# Altium schematic symbol library B-NT_CHIPS.SchLib: 157 symbols (part 2 of 4)
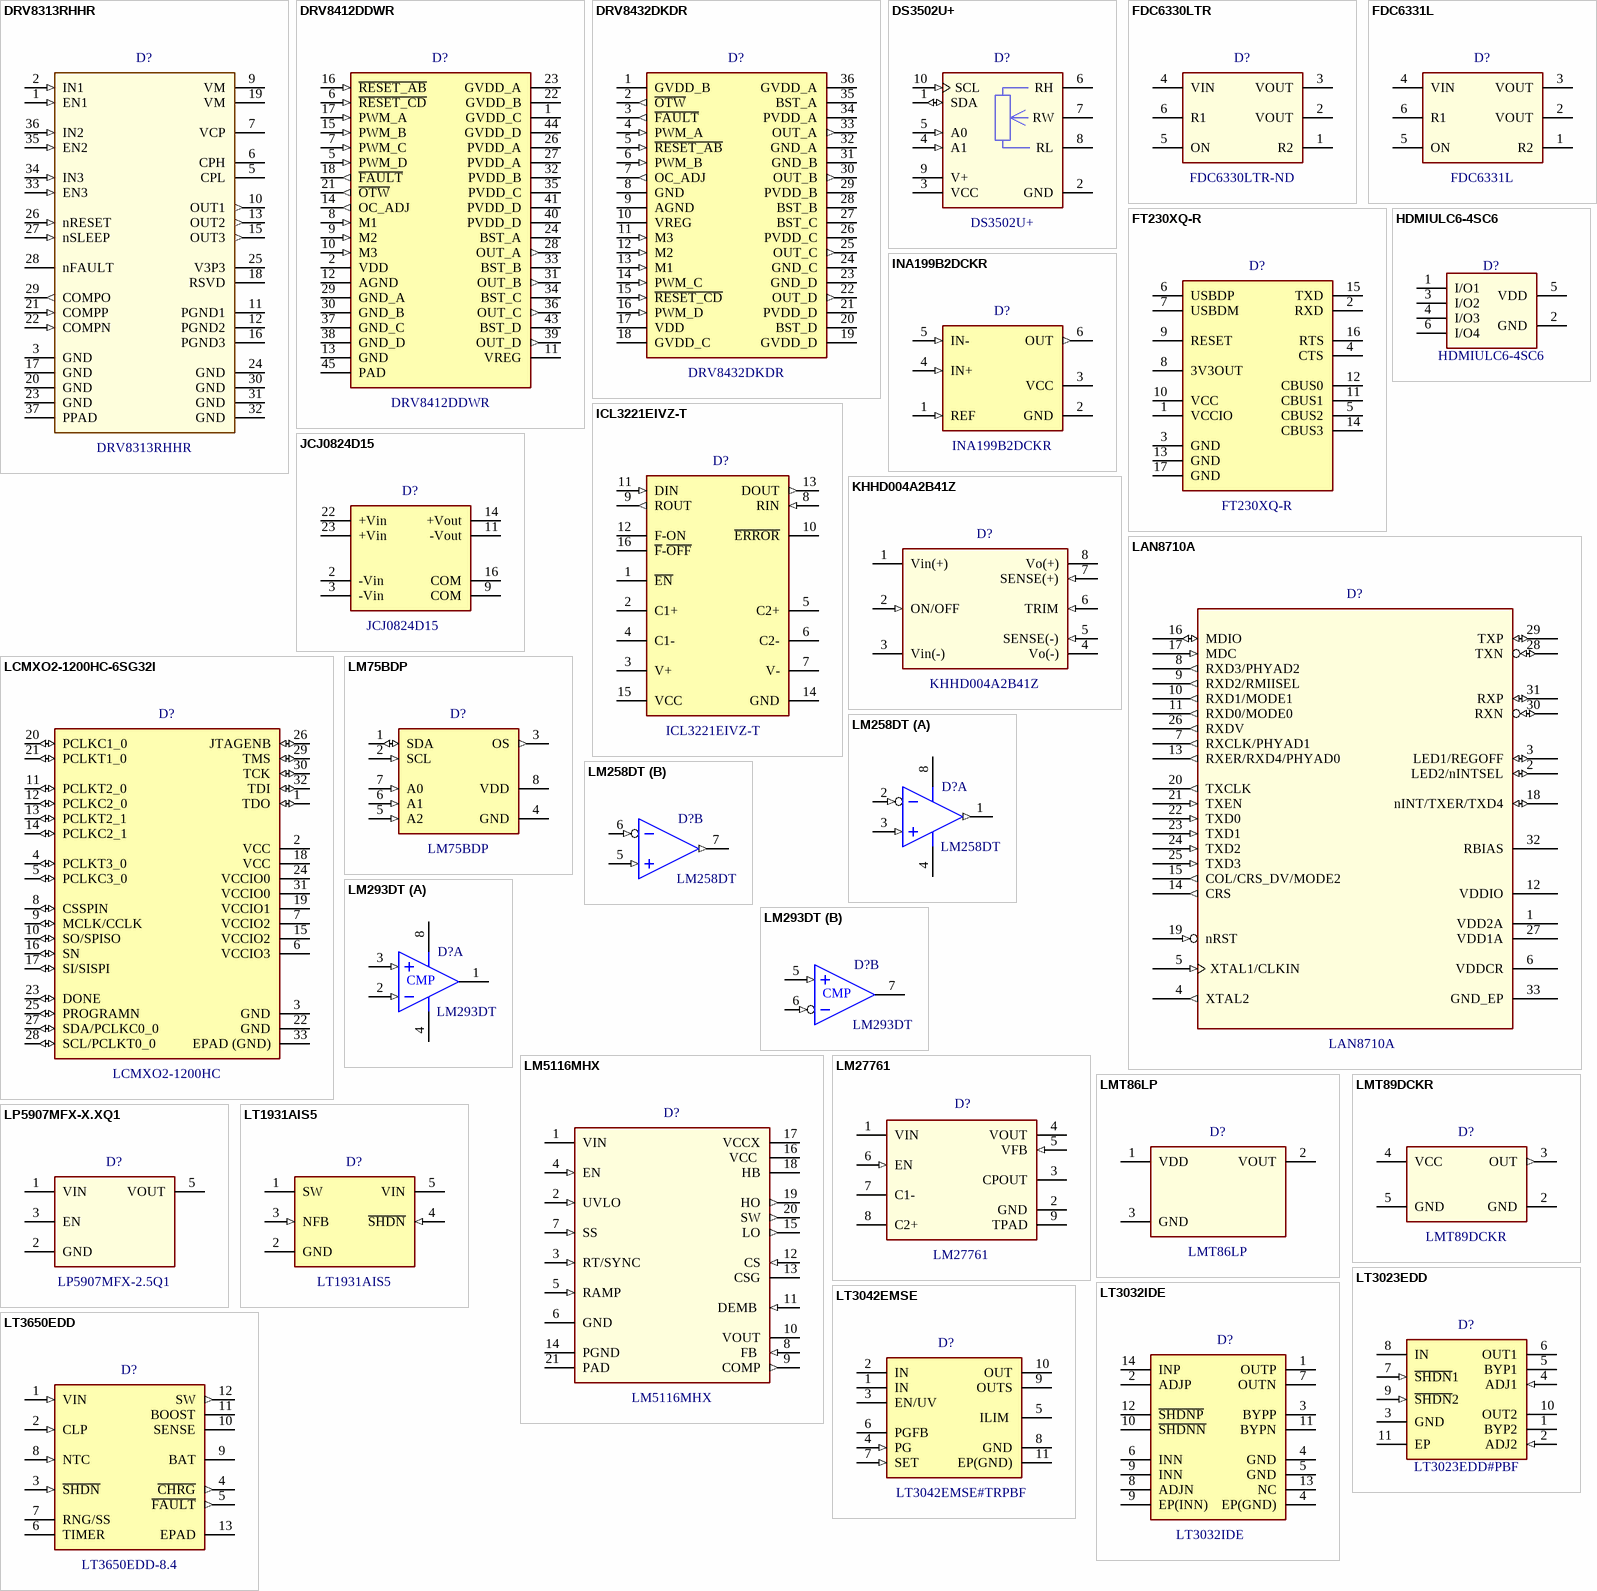
[diagram p10: symbols DRV8313RHHR to LT3650EDD]

## FT230XQ-R
designator D?  value FT230XQ-R
USB to UART 16-WQFN (4x4); ValueManufacturer: FTDI; PowerVoltage: 3.3V~5.0V; ValueDescription: FT230XQ-R USB-UART преобразователь 3.3V~5.0V  16-WQFN(4x4); ValueType: USB to UART Converter; Price: 2.3; ComponentLink1Description: FTDI Datasheet; ComponentLink1URL: http://www.ftdichip.com/Support/Documents/DataSheets/ICs/DS_FT230X.pdf; Package: 16-WQFN(4x4); ValueManufacturerPartNumber: FT230XQ-R; Operating Temperature: -40°C~85°C; CheckDate: SC 21.10.17
footprint QFN-16-4X4-0.65-T (QFN, 16-Leads with exposed die pad, Body 4.1x4.1mm (max), Pitch 0.650mm, IPC Medium Density)
pins: 1 VCCIO, 2 RXD, 3 GND, 4 CTS, 5 CBUS2, 6 USBDP, 7 USBDM, 8 3V3OUT, 9 RESET, 10 VCC, 11 CBUS1, 12 CBUS0, 13 GND, 14 CBUS3, 15 TXD, 16 RTS, 17 GND "THERMOPAD"

## HDMIULC6-4SC6
designator D?  value HDMIULC6-4SC6
TVS DIODE 5V 17V SOT23-6; ValueManufacturer: STMicroelectronics; PowerVoltage: 6В; ValueDescription: HDMIULC6-4SC6 Сборка TVS-диодов 6В  SOT-23-6; ValueType: TVS Diodes; Price: 0.64; ComponentLink1Description: STMicroelectronics Datasheet; ComponentLink1URL: http://www.st.com/content/ccc/resource/technical/document/datasheet/a3/6a/b3/70/10/f8/40/1a/CD00099705.pdf/files/CD00099705.pdf/jcr:content/translations/en.CD00099705.pdf; Package: SOT-23-6; ValueManufacturerPartNumber: HDMIULC6-4SC6; Operating Temperature: -65°C ~ 150°C (TJ); CheckDate: SC *
footprint SOT23-6-1.6X2.9-0.95 (SOT, 6-Leads, Body 2,9x1,6mm, Pitch 0,95mm)
pins: 1 I/O1, 2 GND, 3 I/O2, 4 I/O3, 5 VDD, 6 I/O4

## ICL3221EIVZ-T
designator D?  value ICL3221EIVZ-T
RS232 Transceiver Full 1CH 250kbps 16-TSSOP (4.40mm Width); ValueManufacturer: Intersil; PowerVoltage: 3V~5.5V; ValueDescription: ICL3221EIVZ-T  RS232 Трансивер 16-TSSOP (4.40mm)  3V~5.5V  250kbps; Price: 1.52; ComponentLink1Description: Intersil Datasheet; ComponentLink1URL: http://www.intersil.com/content/dam/Intersil/documents/icl3/icl3221e-22e-23e-32e-41e-43e.pdf; Package: 16-TSSOP (4.40mm); TechSpec: 250kbps; ValueManufacturerPartNumber: ICL3221EIVZ-T; ValueType: Transceiver; Operating Temperature: -40°C~85°C; CheckDate: SC 02.03.17
footprint TSSOP-16-4.4X5-0.65 (QSOP, 16 Leads, Body 5.1x4.5mm (max), Pitch 0.65mm)
pins: 1 ~{EN}, 2 C1+, 3 V+, 4 C1-, 5 C2+, 6 C2-, 7 V-, 8 RIN (in) "out A", 9 ROUT (out) "out A", 10 ~{ERROR}, 11 DIN (in) "Output", 12 F-ON, 13 DOUT (out) "Output", 14 GND, 15 VCC, 16 ~{F}-~{OFF}

## INA199B2DCKR
designator D?  value INA199B2DCKR
Current Sense Amplifier 2.7V~26V 6-TSSOP; ValueManufacturer: Texas Instruments; ValueDescription: INA199B2DCKR Измеритель тока шунта 2.7V~26V  6-TSSOP (SOT-363); Price: 0.92; ComponentLink1Description: Texas Instruments  Datasheet; ComponentLink1URL: http://www.ti.com/lit/ds/symlink/ina199.pdf; Package: 6-TSSOP (SOT-363); PowerVoltage: 2.7V~26V; ValueManufacturerPartNumber: INA199B2DCKR; ValueType: Current Sense; Operating Temperature: -40°C~125°C; CheckDate: SC 25.12.16
footprint SOT363-6-1.25X2.1-0.65 (TSOP, 6-Leads, Body 2,00x1,25mm, Pitch 0,65mm, IPC Medium Density)
pins: 1 REF (in) "out A", 2 GND "Ground", 3 VCC "Supply", 4 IN+ (in) "Input +", 5 IN- (in) "Input -", 6 OUT (out) "Output"

## JCJ0824D15
designator D?  value JCJ0824D15
Isolated Module DC DC Converter 2 Output 15V -15V 265mA, 265mA 18V - 36V Input; ValueManufacturer: XP Power; PowerVoltage: 8W  18~36VAC; ValueDescription: JCJ0824D15 Преобразователь напряжения XP Power  8W  18~36VAC; ValueType: DC-DC; Price: 25; ComponentLink1Description: XP Power Datasheet; ComponentLink1URL: http://www.xppower.com/Portals/0/pdfs/SF_JCJ08-10.pdf; Package: 11-DIP (31.8x20.3x10.2mm); ValueManufacturerPartNumber: JCJ0824D15; Operating Temperature: -40°C~100°C; CheckDate: SC 26.03.17
footprint JCJ0824D15 ((31.8mm x 20.3mm x 10.2mm))
pins: 2 -Vin, 3 -Vin, 9 COM, 11 -Vout, 14 +Vout, 16 COM, 22 +Vin, 23 +Vin

## KHHD004A2B41Z
designator D?  value KHHD004A2B41Z
DC/DC CONVERTER 50W 12V 4.2A; ValueManufacturer: General Electric; Tolerance: +10% ~ -20%; ValueDescription: KHHD004A2B41Z DC/DC конвертер 12V  DIP-8 Module; CheckDate: SC *; ComponentLink2Description: General Electric Datasheet; ComponentLink2URL: http://apps.geindustrial.com/publibrary/checkout/KHHD004A2B?TNR=Data%20Sheets|KHHD004A2B|generic; Package: DIP-8 Module; PowerVoltage: 12V; ValueManufacturerPartNumber: KHHD004A2B41Z; ValueType: DC/DC CONVERTER; Price: 28.15$; Operating Temperature: -40 ~ +85
footprint KHHD004A2B41
pins: 1 Vin(+) (power), 2 ON/OFF (in), 3 Vin(-) (power), 4 Vo(-), 5 SENSE(-) (in), 6 TRIM (in), 7 SENSE(+) (in), 8 Vo(+)

## LAN8710A
designator D?  value LAN8710A
Ethernet ICs 10/100 Ethernet XCVR w/HPAutoMDIX FlexPwr; ValueManufacturer: Texas Instruments; PowerVoltage: 1.6V~3.6V; ValueDescription: LAN8710A ethetnet приемопередатчик 1.6V~3.6V  32-VQFN(5x5); ValueType: transceiver; Price: 1.29; ComponentLink1Description: Microchip Technology Datasheet; ComponentLink1URL: http://ww1.microchip.com/downloads/en/DeviceDoc/00002164B.pdf; Package: 32-VQFN(5x5); ValueManufacturerPartNumber: LAN8710A; Operating Temperature: -0°C~85°C; CheckDate: SC 21.10.17
footprint QFN-32-5X5-0.5-T (QFN, 32-Leads with exposed die pad, Body 5.1x5.1mm (max), Pitch 0.50mm, IPC Medium Density)
pins: 1 VDD2A (power), 2 LED2/nINTSEL (io), 3 LED1/REGOFF (io), 4 XTAL2 (out), 5 XTAL1/CLKIN (in), 6 VDDCR (power), 7 RXCLK/PHYAD1 (out), 8 RXD3/PHYAD2 (out), 9 RXD2/RMIISEL (out), 10 RXD1/MODE1 (out), 11 RXD0/MODE0 (out), 12 VDDIO (power), 13 RXER/RXD4/PHYAD0 (out), 14 CRS (out), 15 COL/CRS_DV/MODE2 (out), 16 MDIO (io), 17 MDC (in), 18 nINT/TXER/TXD4 (io), 19 nRST (in), 20 TXCLK (out), 21 TXEN (in), 22 TXD0 (in), 23 TXD1 (in), 24 TXD2 (in), 25 TXD3 (in), 26 RXDV (out), 27 VDD1A (power), 28 TXN (io), 29 TXP (io), 30 RXN (io), 31 RXP (io), 32 RBIAS, 33 GND_EP (power)

## LCMXO2-1200HC-6SG32I
designator D?  value LCMXO2-1200HC
IC FPGA 21 I/O 32QFN 32-QFN (5x5); ValueManufacturer: Lattice Semiconductor Corporation; ValueManufacturerPartNumber: LCMXO2-1200HC-6SG32I; PowerVoltage: 2.375 V ~ 3.465 V; ValueType: CPLD; ValueDescription: LCMXO2-1200HC ПЛИС 2.375 V ~ 3.465 V  32-UFQFN Exposed Pad; Price: 5.70; Package: 32-UFQFN Exposed Pad; Operating Temperature: -40°C ~ 100°C; CheckDate: SC *; ComponentLink1Description: Lattice Semiconductor Datasheet; ComponentLink1URL: http://www.latticesemi.com/~/media/LatticeSemi/Documents/DataSheets/MachXO23/MachXO2FamilyDataSheet.pdf
footprint QFN-32-5X5-0.5-T (QFN, 32-Leads with exposed die pad, Body 5.1x5.1mm (max), Pitch 0.50mm, IPC Medium Density)
pins: 1 TDO (io), 2 VCC, 3 GND, 4 PCLKT3_0 (io), 5 PCLKC3_0 (io), 6 VCCIO3, 7 VCCIO2, 8 CSSPIN (io), 9 MCLK/CCLK (io), 10 SO/SPISO (io), 11 PCLKT2_0 (io), 12 PCLKC2_0 (io), 13 PCLKT2_1 (io), 14 PCLKC2_1 (io), 15 VCCIO2, 16 SN (io), 17 SI/SISPI (io), 18 VCC, 19 VCCIO1, 20 PCLKC1_0 (io), 21 PCLKT1_0 (io), 22 GND, 23 DONE (io), 24 VCCIO0, 25 PROGRAMN (io), 26 JTAGENB (io), 27 SDA/PCLKC0_0 (io), 28 SCL/PCLKT0_0 (io), 29 TMS (io), 30 TCK (io), 31 VCCIO0, 32 TDI (io), 33 EPAD (GND)

## LM75BDP
designator D?  value LM75BDP
I2C Digital Temperature Sensor 2.8V~5.5V -55°C~125°C 11b 8-TSSOP; ValueManufacturer: NXP Semiconductors; ValueDescription: LM75BDP Цифровой термодатчик  2.8V~5.5V  8-TSSOP (3.00mm); ValueType: Current Sense; Price: 0.74; ComponentLink1Description: NXP Semiconductors Datasheet; ComponentLink1URL: http://www.nxp.com/documents/data_sheet/LM75B.pdf; Package: 8-TSSOP (3.00mm); PowerVoltage: 2.8V~5.5V; ValueManufacturerPartNumber: LM75BDP; Operating Temperature: -55°C~125°C; CheckDate: SC 25.12.16
footprint SSOP-8-3X3-0.65 (MSOP, 8-Leads, Body 3,00x3,00mm, Pitch 0,65mm, IPC Medium Density)
pins: 1 SDA (io) "Serial Data", 2 SCL (in) "Serial CLock", 3 OS (out) "Overtemperature Shutdown output", 4 GND "Ground", 5 A2 (in) "User-defined address", 6 A1 (in) "User-defined address", 7 A0 (in) "User-defined address", 8 VDD "Power"

## LM258DT
designator D?  value LM258DT
OP Amplifier GP 1.1MHZ  8SOIC 3V~30V; ValueManufacturer: STMicroelectronics; ValueDescription: LM258DT Операционный усилитель 3V~30V  8-SOIC (3.90mm); ValueType: Operational amplifiers; Price: 0.36; ComponentLink1Description: STM Datasheet; ComponentLink1URL: http://www.st.com/content/ccc/resource/technical/document/datasheet/61/46/87/01/98/ed/44/c5/CD00000464.pdf/files/CD00000464.pdf/jcr:content/translations/en.CD00000464.pdf; Package: 8-SOIC (3.90mm); PowerVoltage: 3V~30V; ValueManufacturerPartNumber: LM258DT; Operating Temperature: -40°C~105°C; CheckDate: SC 22.03.17
footprint SOP-8-3.9X5-1.27 (SOIC, 8-Leads, Body 5x4mm, Pitch 1.27mm, IPC Medium Density)
part A pins: 1 VOUTA (out), 2 VINA- (in), 3 VINA+ (in), 4 VSS, 8 VDD
part B pins: 5 VINB+ (in), 6 VINB- (in), 7 VOUTB (out)

## LM293DT
designator D?  value LM293DT
8-SO IC COMPARATOR LP DUAL 8-SOIC 2V~36V; ValueManufacturer: STMicroelectronics; ValueDescription: LM293DT Компаратор 2V~36V  8-SOIC (3.90mm); Price: 0.37; ComponentLink1Description: STMicroelectronics Datasheet; ComponentLink1URL: http://www.st.com/content/ccc/resource/technical/document/datasheet/group1/b4/cc/cf/13/18/28/44/f5/CD00000465/files/CD00000465.pdf/jcr:content/translations/en.CD00000465.pdf; Package: 8-SOIC (3.90mm); PowerVoltage: 2V~36V; ValueManufacturerPartNumber: LM293DT; ValueType: Comparator; Operating Temperature: -40°C~105°C; CheckDate: SC 14.01.17
footprint SOP-8-3.9X5-1.27 (SOIC, 8-Leads, Body 5x4mm, Pitch 1.27mm, IPC Medium Density)
part A pins: 1 VOUTA (oc), 2 VINA- (in), 3 VINA+ (in), 4 VSS, 8 VDD
part B pins: 5 VINB+ (in), 6 VINB- (in), 7 VOUTB (oc)
part A text: CMP
part B text: CMP

## LM5116MHX
designator D?  value LM5116MHX
Step Down Buck Controller 6V~100V Input voltage; ValueManufacturer: Texas Instruments; ValueDescription: LM5116MHX  Преобразователь напряжения 6V~100V  20-TSSOP EP (4.40mm); ValueType: Power Management; Price: 5.95; ComponentLink1Description: Texas Instruments Datasheet; ComponentLink1URL: http://www.ti.com/lit/ds/symlink/lm5116.pdf; Package: 20-TSSOP EP (4.40mm); PowerVoltage: 6V~100V; ValueManufacturerPartNumber: LM5116MHX; Operating Temperature: -40°C ~ 125°C; CheckDate: SC 20.12.16
footprint TSSOP-20-4.4X6.5-0.65-T (TSOP, 20-Leads, Body 6.5x4.4mm, Pitch 0.65mm, IPC Medium Density)
pins: 1 VIN, 2 UVLO  (in), 3 RT/SYNC  (in), 4 EN (in), 5 RAMP  (in), 6 GND, 7 SS (in), 8 FB  (in), 9 COMP (out), 10 VOUT, 11 DEMB  (in), 12 CS (in), 13 CSG, 14 PGND, 15 LO (out), 16 VCC , 17 VCCX, 18 HB, 19 HO (out), 20 SW (out), 21 PAD

## LM27761
designator D?  value LM27761
IC REG SWITCHD CAP NEG ADJ 8WSON; ValueManufacturer: Texas Instruments; PowerVoltage: 2.7-5.5V; Tolerance: +4% ~ -4%; ValueDescription: LM27761 Стабилизатор напряжения инвертирующий 2.7-5.5V  WSON-8; ValueType: IC Switching Regulator; CheckDate: SC *; ComponentLink2Description: http://www.ti.com/; ComponentLink2URL: http://www.ti.com/lit/ds/symlink/lm27761.pdf; Package: WSON-8; ValueManufacturerPartNumber: LM27761; Price: 1.79$; Operating Temperature: -40 ~ +85
footprint SON-8-2X2-0.5-T
pins: 1 VIN (power), 2 GND (power), 3 CPOUT, 4 VOUT, 5 VFB (in), 6 EN (in), 7 C1-, 8 C2+, 9 TPAD

## LMT86LP
designator D?  value LMT86LP
SENSOR TEMP ANLG VOLT TO-92-3 10.9mV/°C; ValueManufacturer: Diodes Incorporated; PowerVoltage: 2.2V~5.5V; Tolerance: ±2.7°C; ValueDescription: LMT86LP Темпрературный датчик   2.2V~5.5V  ±2.7°C  TO-92-3; Price: 0.85; ComponentLink1Description: TI Datasheet; ComponentLink1URL: http://www.ti.com/lit/ds/symlink/lmt86.pdf; Package: TO-92-3; ValueManufacturerPartNumber: LMT86LP; ValueType: SENSOR TEMP; Operating Temperature: -50°C~150°C; CheckDate: SC 04.04.17
footprint TO-92
pins: 1 VDD, 2 VOUT, 3 GND

## LMT89DCKR
designator D?  value LMT89DCKR
SENSOR TEMP 11.77mV/°C ANLG VOLT SC-70-5; ValueManufacturer: Texas Instruments; PowerVoltage: 2.4V~5.5V; Tolerance: ±1.5°C (±2.5°C); ValueDescription: LMT89DCKR NZT-терморезистор 2.4V~5.5V  SC-70-5; ValueType: Temperature Sensor; Price: 0.8; ComponentLink1Description: TI Datasheet; ComponentLink1URL: http://www.ti.com/lit/ds/symlink/lmt89.pdf; Package: SC-70-5; ValueManufacturerPartNumber: LMT89DCKR; Operating Temperature: -55°C~130°C; CheckDate: SC 26.03.17
footprint SOT353-5-1.25X2.1-0.65 (SC-70-5, 0.65 PITCH)
pins: 2 GND "Ground", 3 OUT (out) "Output", 4 VCC "Positive power supply pin", 5 GND "Ground"

## LP5907MFX-X.XQ1
designator D?  value LP5907MFX-2.5Q1
LDO 25MA VINmax=5.5V SOT-23-5; ValueManufacturer: Texas Instrument; ValueManufacturerPartNumber: LP5907MFX-X.XQ1; PowerVoltage: 250mA; ValueDescription: LP5907MFX-2.5Q1 Линейный преобразователь 250mA  SOT-23-5 (SOT-753)  VINmax=5.5V; ValueType: Linear Voltage Regulator; Price: 0.55; ComponentLink1Description: Texas Instrument Datasheet; ComponentLink1URL: http://www.ti.com/lit/ds/symlink/lp5907.pdf; Package: SOT-23-5 (SOT-753); TechSpec: VINmax=5.5V; Operating Temperature: -40°C~85°C; CheckDate: SC 19.02.18
footprint SOT23-5-1.6X2.9-0.95 (SOT, 6-Leads, Body 2,9x1,6mm, Pitch 0,95mm)
pins: 1 VIN, 2 GND, 3 EN, 5 VOUT

## LT1931AIS5
designator D?  value LT1931AIS5
IC REG CUK INV ADJ 1A TSOT23-5; ValueManufacturer: Analog Devices Inc.; ValueManufacturerPartNumber: LT1931AIS5#TRMPBF; ValueDescription: LT1931AIS5 Регулятор напряжения 16V  SOT-23-5 Thin, TSOT-23-5; PowerVoltage: 16V; ValueType: Linear Voltage Regulator; Price: 5.40; ComponentLink1Description: Linear technology/Analog Devices Datasheet; ComponentLink1URL: http://www.analog.com/media/en/technical-documentation/data-sheets/1931fa.pdf; Package: SOT-23-5 Thin, TSOT-23-5; Operating Temperature: -40°C~+85°C; CheckDate: SC *
footprint TSOT23-5-1.4X3-0.95 (SOT-23/SC-74A; 5 Leads; Body 3.1 x 3 mm, inc. leads (LxW max))
pins: 1 SW (power) "Logic Control Input 1", 2 GND, 3 NFB (in), 4 ~{SHDN} (in), 5 VIN (power)

## LT3023EDD
designator D?  value LT3023EDD#PBF
IC REG LINEAR POS ADJ 10DFN; ValueManufacturer: Linear Technology; PowerVoltage: 1.22 V ~ 20 V; ValueType: Voltage Regulator; ValueDescription: LT3023EDD#PBF Регулятор напряжения 1.22 V ~ 20 V  10-WFDFN Exposed Pad (3x3); Price: 3.49; Package: 10-WFDFN Exposed Pad (3x3); ValueManufacturerPartNumber: LT3023EDD#PBF; Operating Temperature: -40°C ~ 125°C; CheckDate: SC *; ComponentLink2Description: Linear Techology Datasheet; ComponentLink2URL: http://cds.linear.com/docs/en/datasheet/3023fa.pdf
footprint SON-10-3X3-0.5-T
pins: 1 BYP2 "Bypass", 2 ADJ2 (in) "Adjust Pin", 3 GND (power) "Ground", 4 ADJ1 (in) "Adjust Pin", 5 BYP1 "Bypass", 6 OUT1 "Output", 7 ~{SHDN}1 (in) "Shutdown", 8 IN "Input", 9 ~{SHDN}2 (in) "Shutdown", 10 OUT2 "Output", 11 EP (power) "Ground"

## LT3032IDE
designator D?  value LT3032IDE
IC REG LINEAR POS/NEG ADJ 14DFN; ValueManufacturer: Linear Technology/Analog Devices; ValueManufacturerPartNumber: LT3032IDE#PBF; PowerVoltage: ±20V; ValueType: Voltage Reference; ValueDescription: LT3032IDE Регулятор напряжения ±20V  14-DFN (4x3); Price: 5.54; Package: 14-DFN (4x3); Operating Temperature: -40°C ~ 125°C (TA); CheckDate: SC *; ComponentLink2Description: Linear Technology/Analog Devices Datasheet; ComponentLink2URL: http://cds.linear.com/docs/en/datasheet/3032ff.pdf
footprint DFN-14-4X3-0.5 (14-Lead Plastic DFN (4mm ? 3mm))
pins: 1 OUTP, 2 ADJP, 3 BYPP, 4 GND, 4 EP(GND), 5 GND, 6 INN, 7 OUTN, 8 ADJN, 9 INN, 9 EP(INN), 10 ~{SHDNN}, 11 BYPN, 12 ~{SHDNP}, 13 NC, 14 INP

## LT3042EMSE
designator D?  value LT3042EMSE#TRPBF
IC REG LIN POS ADJ 200mA 10-MSOP-EP; ValueManufacturer: Linear Technology/Analog Devices; PowerVoltage: 0 V ~ 15 V; ValueType: Voltage Regulator; ValueDescription: LT3042EMSE#TRPBF Регулятор напряжения 0 V ~ 15 V  10-MSOP Exposed Pad (3x3); Price: 5.74; Package: 10-MSOP Exposed Pad (3x3); ValueManufacturerPartNumber: LT3042EMSE#TRPBF; Operating Temperature: -40°C ~ 125°C; CheckDate: SC *; ComponentLink2Description: Linear Techology Datasheet; ComponentLink2URL: http://www.analog.com/media/en/technical-documentation/data-sheets/3042fb.pdf?domain=www.linear.com
footprint MSOP-10-EP-3X3-0.5 (MSOP-10, Body 3x3mm)
pins: 1 IN "Input", 2 IN "Input", 3 EN/UV "Enable/UVLO", 4 PG (in) "Power Good", 5 ILIM  "Current Limit Programming Pin", 6 PGFB  (power) "Power Good Feedback", 7 SET (in), 8 GND (power) "Ground", 9 OUTS "Output", 10 OUT "Output", 11 EP(GND) (power) "Ground"

## LT3650EDD
designator D?  value LT3650EDD-8.4
Charger Lithium-Ion/Polymer 12-DFN (3x3); ValueManufacturer: Linear Technology; ValueManufacturerPartNumber: LT3650EDD; PowerVoltage: 11.5-32V; Tolerance: 2A; ValueDescription: LT3650EDD-8.4   11.5-32V Контроллер зарядки Li-ion АКБ 12-WFDFN (SON 3x3); ValueType: Power Management; Price: 6.0; ComponentLink1Description: Linear Technology Datasheet; ComponentLink1URL: http://cds.linear.com/docs/en/datasheet/36508284fd.pdf; Package: 12-WFDFN (SON 3x3); Operating Temperature: -40°C~85°C; CheckDate: SC 21.10.17
footprint SON-12-3X3-0.45-T
pins: 1 VIN (in), 2 CLP (in), 3 ~{SHDN} (in), 4 ~{CHRG} (out), 5 ~{FAU}~{LT} (out), 6 TIMER, 7 RNG/SS, 8 NTC (in), 9 BAT, 10 SENSE, 11 BOOST, 12 SW (out), 13 EPAD

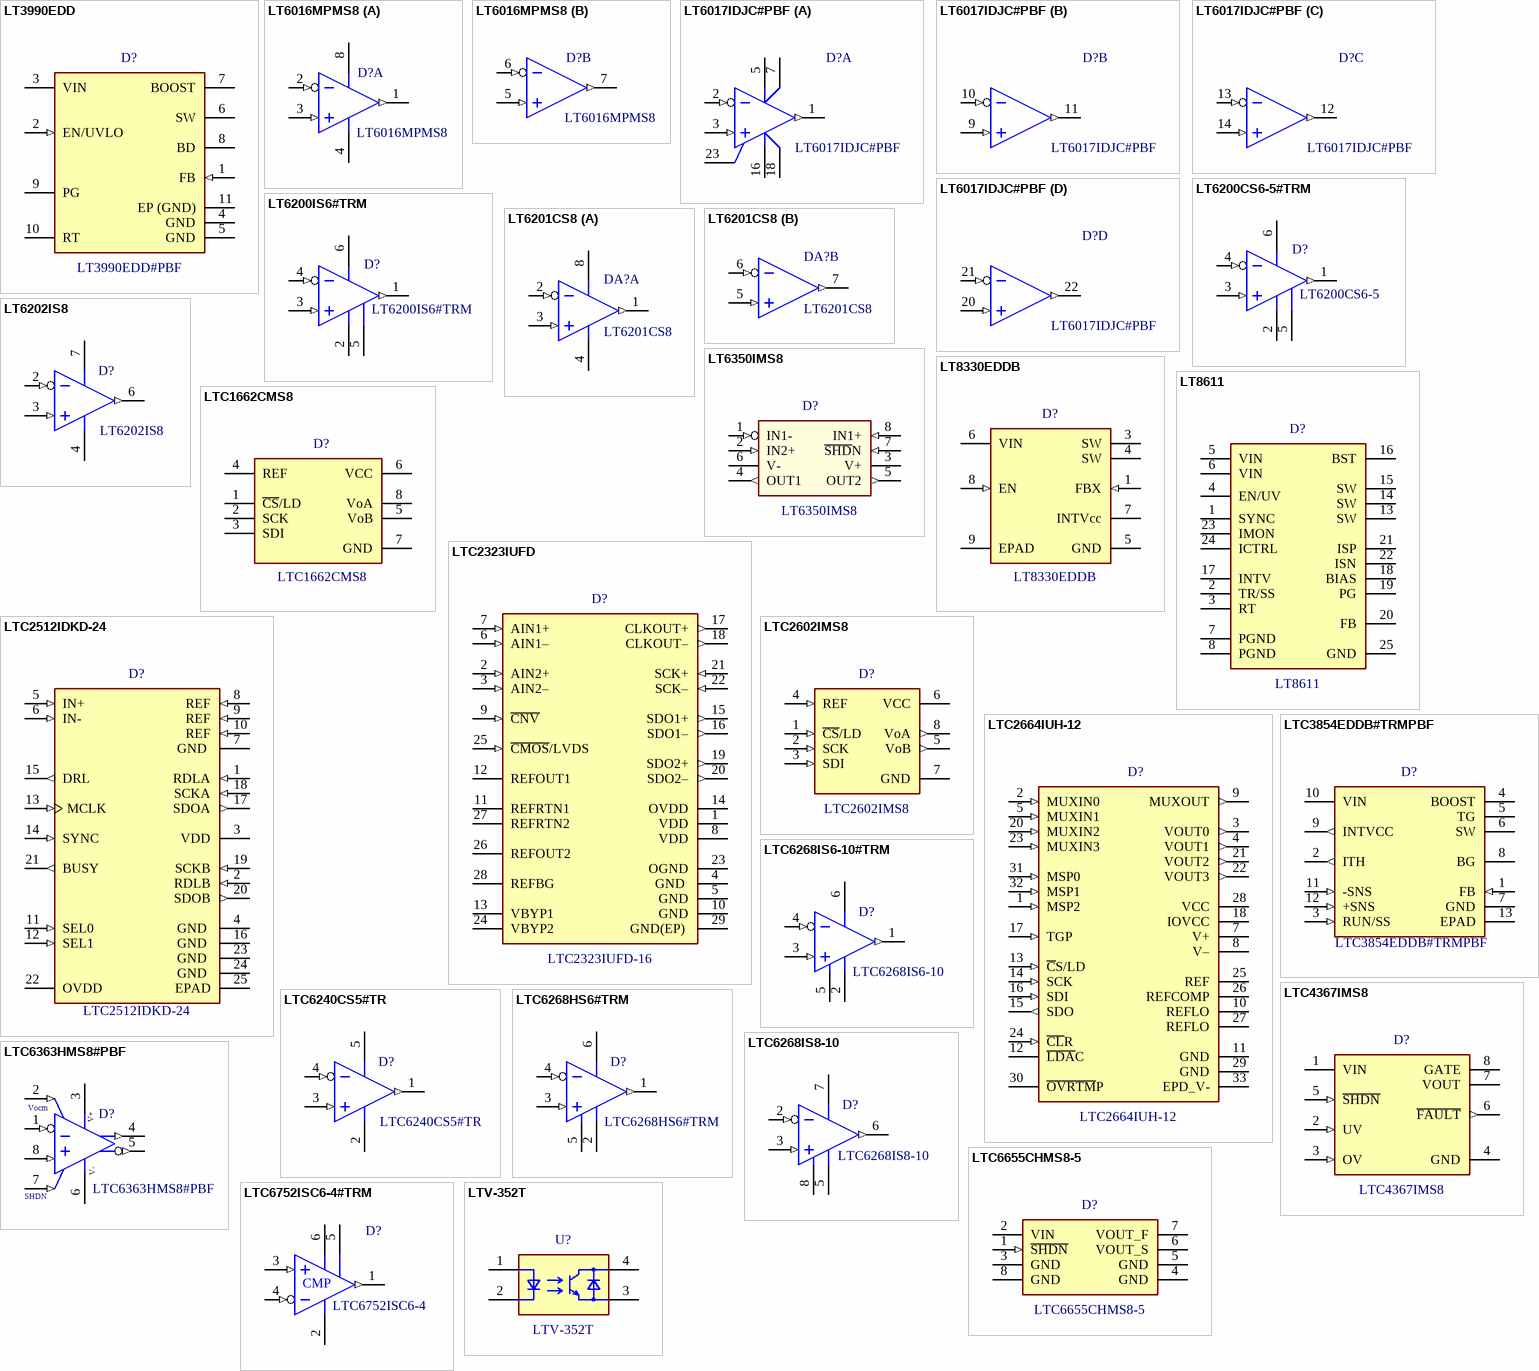
[diagram p3: symbols LT3990EDD to LTV-352T]

## LT3990EDD
designator D?  value LT3990EDD#PBF
IC REG BUCK ADJ 0.35A 10DFN; ValueManufacturer: Linear Technology; PowerVoltage: 25 V; ValueType: DC/DC converter; ValueDescription: LT3990EDD#PBF DC/DC преобразователь 25 V  10-WFDFN Exposed Pad (3x3); Price: 5.56; Package: 10-WFDFN Exposed Pad (3x3); ValueManufacturerPartNumber: LT3990EDD#PBF; Operating Temperature: -40°C ~ 125°C; CheckDate: SC *; ComponentLink1Description: Linear Techology/Analog Devices Datasheet; ComponentLink1URL: http://www.analog.com/media/en/technical-documentation/data-sheets/3990fa.pdf
footprint SON-10-3X3-0.5-T
pins: 1 FB (in) "Bypass", 2 EN/UVLO (in) "Adjust Pin", 3 VIN "Ground", 4 GND "Adjust Pin", 5 GND "Bypass", 6 SW "Output", 7 BOOST "Shutdown", 8 BD "Input", 9 PG "Shutdown", 10 RT "Output", 11 EP (GND) "Ground"

## LT6016MPMS8
designator D?  value LT6016MPMS8
IC OPAMP GP 3.3MHZ RRO 8MSOP; ValueManufacturer: Linear Technology/Analog Devices; ValueManufacturerPartNumber: LT6016MPMS8#PBF; PowerVoltage: ±1.5V ~ 25 V; ValueDescription: LT6016MPMS8 Операционный усилитель ±1.5V ~ 25 V  8-TSSOP, 8-MSOP; ValueType: Operational amplifiers; Price: 10.64; ComponentLink1Description: Linear Technology/Analog Devices Datasheet; ComponentLink1URL: http://cds.linear.com/docs/en/datasheet/601567ff.pdf; Package: 8-TSSOP, 8-MSOP; Operating Temperature: -55°C ~ 150°C; CheckDate: SC *
footprint SSOP-8-3X3-0.65 (MSOP, 8-Leads, Body 3,00x3,00mm, Pitch 0,65mm, IPC Medium Density)
part A pins: 1 VOUTA (out), 2 VINA- (in), 3 VINA+ (in), 4 V- (power), 8 V+ (power)
part B pins: 5 VINB+ (in), 6 VINB- (in), 7 VOUTB (out)

## LT6017IDJC#PBF
designator D?  value LT6017IDJC#PBF
IC OPAMP GP 3.2MHZ RRO 22DFN; ValueManufacturer: Linear Technology/Analog Devices; ValueDescription: LT6017IDJC#PBF Операционный усилитель ±1.5V ~ 25 V  22-WFDFN Exposed Pad; ValueType: Operational Amplifier; PowerVoltage: ±1.5V ~ 25 V; Price: 8.51000; ComponentLink1Description: Linear Technology/Analog  Devices Datasheet; ComponentLink1URL: http://cds.linear.com/docs/en/datasheet/601567ff.pdf; Package: 22-WFDFN Exposed Pad; ValueManufacturerPartNumber: LT6017IDJC#PBF; Operating Temperature: -40°C~+85°C; CheckDate: *
footprint DFN-22-3X6-0.5 (22-WFDFN Exposed Pad)
part A pins: 1 VOUTA (out), 2 VINA- (in), 3 VINA+ (in), 5 V+ (power), 7 V+ (power), 16 V- (power), 18 V- (power), 23 PAD (power)
part B pins: 9 VINB+ (in), 10 VINB- (in), 11 VOUTB (out)
part C pins: 12 VOUTC (out), 13 VINC- (in), 14 VINC+ (in)
part D pins: 20 VIND+ (in), 21 VIND- (in), 22 VOUTD (out)

## LT6200CS6-5#TRM
designator D?, comment LT6200CS6-5
Buffer Amplifier 1 Circuit 800MHZ TSOT-23-6; ValueManufacturer: Linear Technology/Analog Devices; ValueManufacturerPartNumber: LT6200CS6-5#TRMPBF; PowerVoltage: 2.5 V ~ 12.6 V; ValueDescription: LT6200CS6-5 Операционный усилитель 2.5 V ~ 12.6 V  SOT-23-6 Thin, TSOT-23-6; ValueType: Operational amplifiers; ComponentLink1Description: Linear Technology Datasheet; ComponentLink1URL: http://cds.linear.com/docs/en/datasheet/62001ff.pdf; CheckDate: SC *; Operating Temperature: 0°C ~ 70°C; Package: SOT-23-6 Thin, TSOT-23-6; Price: 3.79; Value: LT6200CS6-5
footprint SOT23-6-1.6X2.9-0.95 (SOT, 6-Leads, Body 2,9x1,6mm, Pitch 0,95mm)
pins: 1 OUT (out), 2 V- (power), 3 IN+ (in), 4 IN- (in), 5 ~{SHDN}, 6 V+ (power)

## LT6200IS6#TRM
designator D?
Buffer Amplifier 1 Circuit 165MHZ TSOT-23-6; ValueManufacturer: Linear Technology/Analog Devices; ValueManufacturerPartNumber: LT6200IS6#TRMPBF; PowerVoltage: 2.5 V ~ 12.6 V; ValueDescription: LT6200IS6#TRM Операционный усилитель 2.5 V ~ 12.6 V  SOT-23-6 Thin, TSOT-23-6; ValueType: Operational amplifiers; ComponentLink1Description: Linear Technology Datasheet; ComponentLink1URL: http://cds.linear.com/docs/en/datasheet/62001ff.pdf; CheckDate: SC *; Operating Temperature: -40°C ~ 85°C; Package: SOT-23-6 Thin, TSOT-23-6; Price: 6.29; Value: LT6200IS6#TRM
footprint SOT23-6-1.6X2.9-0.95 (SOT, 6-Leads, Body 2,9x1,6mm, Pitch 0,95mm)
pins: 1 OUT (out), 2 V- (power), 3 IN+ (in), 4 IN- (in), 5 ~{SHDN}, 6 V+ (power)

## LT6201CS8
designator DA?
Buffer Amplifier 2 Circuit Rail-to-Rail 8-SO; ValueManufacturer: Linear Technology/Analog Devices; ValueManufacturerPartNumber: LT6201CS8#PBF; PowerVoltage: 2.5 V ~ 12.6 V, ±1.25 V ~ 6.3 V; ValueDescription: LT6201CS8 Операционный усилитель 2.5 V ~ 12.6 V, ±1.25 V ~ 6.3 V  8-SOIC; ValueType: Operational amplifiers; ComponentLink1Description: Linear Technology Datasheet; ComponentLink1URL: http://cds.linear.com/docs/en/datasheet/62001ff.pdf; CheckDate: SC *; Operating Temperature: 0°C ~ 70°C; Package: 8-SOIC; Price: 7.56000; Value: LT6201CS8
footprint SOP-8-3.9X5-1.27 (SOIC, 8-Leads, Body 5x4mm, Pitch 1.27mm, IPC Medium Density)
part A pins: 1 VOUTA (out), 2 VINA- (in), 3 VINA+ (in), 4 V- (power), 8 V+ (power)
part B pins: 5 VINB+ (in), 6 VINB- (in), 7 VOUTB (out)

## LT6202IS8
designator D?  value LT6202IS8
IC OPAMP GP 100MHZ RRO 8SO; ValueManufacturer: Linear Technology; ValueManufacturerPartNumber: LT6202IS8#PBF; ValueDescription: LT6202IS8 Операционный усилитель 2.5 V ~ 12.6 V  8-SOIC; ValueType: Operational Amplifier; PowerVoltage: 2.5 V ~ 12.6 V; Price: 3.72; ComponentLink1Description: Linear Technology Datasheet; ComponentLink1URL: http://cds.linear.com/docs/en/datasheet/620234fd.pdf; Package: 8-SOIC; Operating Temperature: -40°C ~ 85°C; CheckDate: SC *
footprint SOP-8-3.9X5-1.27 (SOIC, 8-Leads, Body 5x4mm, Pitch 1.27mm, IPC Medium Density)
pins: 2 IN- (in), 3 IN+ (in), 4 V- (power), 6 VOUT (out), 7 V+ (power)

## LT6350IMS8
designator D?  value LT6350IMS8
IC DIFF CONVERT/ADC DRIVER 8MSOP; ValueManufacturer: Linear Technology/Analog Devices; ValueManufacturerPartNumber: LT6350IMS8#PBF; PowerVoltage: 2.7 V ~ 12 V; ValueDescription: LT6350IMS8 Дифференциальный усилитель 2.7 V ~ 12 V  MSOP-8; ValueType: Differential Amplifiers; Price: 6.3; ComponentLink1Description: LT Datasheet; ComponentLink1URL: http://www.analog.com/media/en/technical-documentation/data-sheets/6350fc.pdf?domain=www.linear.com; Package: MSOP-8; Operating Temperature: -40°C ~ 125°C; CheckDate: SC *
footprint SSOP-8-3X3-0.65 (MSOP, 8-Leads, Body 3,00x3,00mm, Pitch 0,65mm, IPC Medium Density)
pins: 1 IN1- (in) "Inverting input", 2 IN2+ (in), 3 V+ (power), 4 OUT1 (out), 5 OUT2 (out), 6 V- (power), 7 ~{SHD}N (in), 8 IN1+ (in) "Noninverting input"

## LT8330EDDB
designator D?  value LT8330EDDB
IC REG BST SEPIC ADJ 1A 8DFN; ValueManufacturer: Analog Devices Inc.; ValueManufacturerPartNumber: LT8330EDDB#TRMPBF; ValueDescription: LT8330EDDB DC/DC конвертер 40 V  8-WFDFN Exposed Pad, 8-DFN (3x2); PowerVoltage: 40 V; ValueType: DC/DC converter; Price: 6.23; ComponentLink1Description: Linear technology/Analog Devices Datasheet; ComponentLink1URL: http://www.analog.com/media/en/technical-documentation/data-sheets/8330fa.pdf; Package: 8-WFDFN Exposed Pad, 8-DFN (3x2); Operating Temperature: -40°C~125°C; CheckDate: SC * delete
footprint DFN-8-3X2-0.5 (8-WFDFN Exposed Pad(3x2))
pins: 1 FBX (in), 3 SW, 4 SW, 5 GND, 6 VIN, 7 INTVcc (power), 8 EN (in), 9 EPAD

## LT8611
designator D?  value LT8611
REG BUCK ADJ 2.5A SYNC 24QFN; ValueManufacturer: Linear Technology; ValueDescription: LT8611 Регулятор напряжения 2.5A  24-WFQFN; ValueType: voltage regulator; Price: 8.12; ComponentLink1Description: Linear Technology Datasheet; ComponentLink1URL: http://cds.linear.com/docs/en/datasheet/8611fa.pdf; Package: 24-WFQFN; PowerVoltage: 2.5A; ValueManufacturerPartNumber: LT8611; Operating Temperature: -40°C~125°C; CheckDate: SC 21.10.17
footprint QFN-24-3X5-0.5-T (QFN, 24-Leads with exposed pad, Body 3x5mm, Pitch 0.50mm)
pins: 1 SYNC, 2 TR/SS, 3 RT, 4 EN/UV, 5 VIN, 6 VIN, 7 PGND, 8 PGND, 13 SW, 14 SW, 15 SW, 16 BST, 17 INTV, 18 BIAS, 19 PG, 20 FB, 21 ISP, 22 ISN, 23 IMON, 24 ICTRL, 25 GND

## LTC1662CMS8
designator D?
10 Bit Digital to Analog Converter 2 8-MSOP; ValueManufacturer: Linear Technology/Analog Devices; ValueManufacturerPartNumber: LTC1662CMS8#PBF; PowerVoltage: 2.7 V ~ 5.5 V; ValueDescription: LTC1662CMS8 Цифро-аналоговый преобразователь 2.7 V ~ 5.5 V  8-TSSOP, 8-MSOP (0.118", 3.00mm Width); ValueType: Digital to analog converters; ComponentLink1Description: Linear Technology Datasheet; ComponentLink1URL: http://cds.linear.com/docs/en/datasheet/1662fa.pdf; CheckDate: SC *; Operating Temperature: 0°C ~ 70°C; Package: 8-TSSOP, 8-MSOP (0.118", 3.00mm Width); Price: 5.77; Value: LTC1662CMS8
footprint SSOP-8-3X3-0.65 (MSOP, 8-Leads, Body 3,00x3,00mm, Pitch 0,65mm, IPC Medium Density)
pins: 1 ~{CS}/LD, 2 SCK, 3 SDI, 4 REF, 5 VoB, 6 VCC (power), 7 GND (power), 8 VoA

## LTC2323IUFD
designator D?  value LTC2323IUFD-16
16 Bit Analog to Digital Converter 2 Input 2 SAR  28-QFN (4x5); ValueManufacturer: Linear Technology; ValueManufacturerPartNumber: LTC2323IUFD; PowerVoltage: 3.13V~3.47V,5V; TechSpec: S/H-ADC; ValueDescription: LTC2323IUFD-16 АЦП 2-х канальное с захватом, 5M 3.13V~3.47V,5V  28-QFN (4x5)  S/H-ADC; Price: 26.06; Package: 28-QFN (4x5); ValueType: 16 Bit Analog to Digital Converter 2 Input 2 SAR; Operating Temperature: -40°C~85°C; CheckDate: SC *; ComponentLink2Description: Linear Techology Datasheet; ComponentLink2URL: http://www.analog.com/media/en/technical-documentation/data-sheets/232316fc.pdf
footprint QFN-28-4X5-0.5-T (QFN, 28-Leads with exposed pad, Body 4x5mm, Pitch 0.50mm)
pins: 1 VDD, 2 AIN2+ (in), 3 AIN2– (in), 4 GND  (power), 5 GND, 6 AIN1– (in), 7 AIN1+ (in), 8 VDD, 9 ~{CNV} (in), 10 GND, 11 REFRTN1, 12 REFOUT1, 13 VBYP1, 14 OVDD, 15 SDO1+ (out), 16 SDO1– (out), 17 CLKOUT+ (out), 18 CLKOUT– (out), 19 SDO2+ (out), 20 SDO2– (out), 21 SCK+ (in), 22 SCK– (in), 23 OGND (power), 24 VBYP2 (power), 25 ~{CMOS}/LVDS (in), 26 REFOUT2, 27 REFRTN2, 28 REFBG, 29 GND(EP)  (power)

## LTC2512IDKD-24
designator D?  value LTC2512IDKD-24
24 Bit Analog to Digital Converter 1 Input 1 SAR 24-DFN (7x4); ValueManufacturer: Linear Technology; ValueManufacturerPartNumber: LTC2512IDKD-24#PBF; PowerVoltage: 2.375 V ~ 2.625 V; ValueType: Analog to Digital Converters (ADC); ValueDescription: LTC2512IDKD-24 Источник опорного напряжения 2.375 V ~ 2.625 V  24-WFDFN Exposed Pad(7х4); Price: 19.93; Package: 24-WFDFN Exposed Pad(7х4); Operating Temperature: -40°C ~ 85°C; CheckDate: SC *; ComponentLink2Description: Linear Techology Datasheet; ComponentLink2URL: https://ru.mouser.com/datasheet/2/609/251224fa-1272101.pdf
footprint DFN-24-4X7-0.5 (24-WFDFN Exposed Pad(7х4))
pins: 1 RDLA (in) "Power Supply Read Low Input A (Filtered Output)", 2 RDLB (in) ": Read Low Input B (No Latency Output)", 3 VDD (power) "2.5V Power Supply", 4 GND  (power) "Ground", 5 IN+ (in) "Positive Analog Input", 6 IN- (in) "Negative Analog Input", 7 GND  (power) "Ground", 8 REF (in) "Reference Input", 9 REF (in) "Reference Input", 10 REF (in) "Reference Input", 11 SEL0 (in) "Down-Sampling Factor Select Input 0, Down-Sampling Factor Select Input 1", 12 SEL1 (in) "Down-Sampling Factor Select Input 0, Down-Sampling Factor Select Input 1", 13 MCLK  (in) "Master Clock Input", 14 SYNC (in) "Synchronization Input", 15 DRL (out) "Data Ready Low Output", 16 GND  (power) "Ground", 17 SDOA (out) "Serial Data Output A (Filtered Output)", 18 SCKA (in) "Serial Data Clock Input A (Filtered Output)", 19 SCKB (in) "Serial Data Clock Input B (No Latency  Output)", 20 SDOB (out) "Serial Data Output B (No Latency Output)", 21 BUSY (out) "BUSY Indicator", 22 OVDD (power) "I/O Interface Digital Power", 23 GND  (power) "Ground", 24 GND  (power) "Ground", 25 EPAD (power) "Ground"

## LTC2602IMS8
designator D?
16 Bit Digital to Analog Converter 2 8-MSOP; ValueManufacturer: Linear Technology/Analog Devices; ValueManufacturerPartNumber: LTC2602IMS8#PBF; PowerVoltage: 2.7 V ~ 5.5 V; ValueDescription: LTC2602IMS8 Цифро-аналоговый преобразователь 2.7 V ~ 5.5 V  8-TSSOP, 8-MSOP (0.118", 3.00mm Width); ValueType: Digital to Analog Converters (DAC); ComponentLink1Description: Linear Technology/Analog Devices Datasheet; ComponentLink1URL: http://cds.linear.com/docs/en/datasheet/2602fa.pdf; CheckDate: SC *; Operating Temperature: 40°C ~ 85°C; Package: 8-TSSOP, 8-MSOP (0.118", 3.00mm Width); Price: 10.89; Value: LTC2602IMS8
footprint SSOP-8-3X3-0.65 (MSOP, 8-Leads, Body 3,00x3,00mm, Pitch 0,65mm, IPC Medium Density)
pins: 1 ~{CS}/LD (in), 2 SCK (in), 3 SDI (in), 4 REF (in), 5 VoB (out), 6 VCC (power), 7 GND (power), 8 VoA (out)

## LTC2664IUH-12
designator D?  value LTC2664IUH-12
12 Bit Digital to Analog Converter 4 32-QFN (5x5); ValueManufacturer: Linear Technology/Analog Devices; ValueManufacturerPartNumber: LTC2664IUH-12#PBF; PowerVoltage: ±4.5 V ~ 15.75 V, 1.71 V ~ 5.5 V; ValueType: Digital to Analog Converters (DAC); ValueDescription: LTC2664IUH-12 ЦАП ±4.5 V ~ 15.75 V, 1.71 V ~ 5.5 V  32-WFQFN Exposed Pad; Price: 23.97; Package: 32-WFQFN Exposed Pad; Operating Temperature: -40°C ~ 85°C; CheckDate: SC *; ComponentLink2Description: Linear Technology/Analog Devices Datasheet; ComponentLink2URL: http://cds.linear.com/docs/en/datasheet/2664fa.pdf
footprint QFN-32-5X5-0.5-T (QFN, 32-Leads with exposed die pad, Body 5.1x5.1mm (max), Pitch 0.50mm, IPC Medium Density)
pins: 1 MSP2 (in) "Power Supply MSPAN Bit 2", 2 MUXIN0 (in) "AnalogMultiplexer  Auxiliary Input", 3 VOUT0 (out) "DAC Analog Voltage  Output", 4 VOUT1 (out) "DAC Analog Voltage  Output", 5 MUXIN1 (in) "AnalogMultiplexer  Auxiliary Input", 7 V+ (power) "Analog Positive Supply", 8 V– (power) "Analog Negative Supply", 9 MUXOUT (out) "AnalogMultiplexerOutput", 10 REFLO "Reference Low Pin", 11 GND (power) "Analog Ground", 12 ~{LDA}C "Active-low Asynchronous DAC Update  Pin", 13 ~{C}S/LD (in) "Serial Interface Chip Select/Load Input", 14 SCK (in) "Serial Interface Clock Input", 15 SDO (out) "Serial Interface Data Output", 16 SDI (in) "Serial Interface Data Input", 17 TGP (in) "Asynchronous Toggle Pin", 18 IOVCC (power) "Digital Input/Output Supply Voltage", 20 MUXIN2 (in) "Serial AnalogMultiplexer  Auxiliary Input", 21 VOUT2 (out) "DAC Analog Voltage  Output", 22 VOUT3 (out) "DAC Analog Voltage  Output", 23 MUXIN3 (in) "AnalogMultiplexer  Auxiliary Input", 24 ~{CL}R (in) "Active-low Asynchronous Clear Input", 25 REF "Reference In/Out", 26 REFCOMP "InternalReferenceCompensationPin", 27 REFLO "Reference Low Pin", 28 VCC (power) "Analog Supply Voltage Input", 29 GND (power) "Analog Ground", 30 ~{OVRTM}P  "Thermal Protection Interrupt Pin", 31 MSP0 (in) "MSPAN Bit 0", 32 MSP1 (in) "MSPAN Bit 1", 33 EPD_V- (power) "Analog Negative Supply (V–)"

## LTC3854EDDB#TRMPBF
designator D?  value LTC3854EDDB#TRMPBF
IC REG CTRLR BUCK 12DFN; ValueManufacturer: Linear Technology/Analog Devices; ValueDescription: LTC3854EDDB#TRMPBF Преобразователь напряжения 4.5V~38V  12-DFN (3x2); PowerVoltage: 4.5V~38V; ValueType: Voltage Regulators; Price: 4.13000; ComponentLink1Description: Linear Technology/Analog Devices Datasheet; ComponentLink1URL: http://cds.linear.com/docs/en/datasheet/3854fb.pdf; Package: 12-DFN (3x2); Operating Temperature: -40°C~+85°C; CheckDate: *; ValueManufacturerPartNumber: LTC3854EDDB#TRMPBF
footprint DFN-12-3X2-0.45 (12-WFDFN Exposed Pad(3x2))
pins: 1 FB (in), 2 ITH (out), 3 RUN/SS (in), 4 BOOST (power), 5 TG (power), 6 SW (power), 7 GND (power), 8 BG (power), 9 INTVCC (out), 10 VIN (power), 11 -SNS (in), 12 +SNS (in), 13 EPAD (power)

## LTC4367IMS8
designator D?  value LTC4367IMS8
SUPPLY PROTECTION CONTROLLER 2.5V~60V; ValueManufacturer: Linear Technology; ValueDescription: LTC4367IMS8 Контроллер защиты питания  2.5V~60V  8-TSSOP (3.00mm); Price: 4.12; ComponentLink1Description: Linear Technology Datasheet; ComponentLink1URL: http://www.linear.com/docs/47176; Package: 8-TSSOP (3.00mm); PowerVoltage: 2.5V~60V; ValueManufacturerPartNumber: LTC4367IMS8; ValueType: SUPPLY PROTECTION; Operating Temperature: -40°C~85°C; CheckDate: SC *
footprint SSOP-8-3X3-0.65 (MSOP, 8-Leads, Body 3,00x3,00mm, Pitch 0,65mm, IPC Medium Density)
pins: 1 VIN, 2 UV (in), 3 OV (in), 4 GND, 5 ~{SHDN} (in), 6 ~{FAULT} (out) "Power", 7 VOUT "Power", 8 GATE "Overtemperature Shutdown output"

## LTC6240CS5#TR
designator D?  value LTC6240CS5#TR
IC OPAMP GP 18MHZ RRO TSOT23-5; ValueManufacturer: ON Semiconductor; ValueManufacturerPartNumber: LTC6240CS5#TRPBF; PowerVoltage: 2.8 V ~ 6 V; ValueDescription: LTC6240CS5#TR Операционный усилитель 2.8 V ~ 6 V  SOT-23-5 Thin, TSOT-23-5; ValueType: Operational Amplifier; Price: 1.05; ComponentLink1Description: Linear Technology Datasheet; ComponentLink1URL: http://cds.linear.com/docs/en/datasheet/624012fe.pdf; Package: SOT-23-5 Thin, TSOT-23-5; Operating Temperature: 0°C ~ 70°C; CheckDate: SC *
footprint TSOT23-5-1.4X3-0.95 (SOT-23/SC-74A; 5 Leads; Body 3.1 x 3 mm, inc. leads (LxW max))
pins: 1 VOUT (out), 2 V- (power), 3 IN+ (in), 4 IN- (in), 5 V+ (power)

## LTC6268HS6#TRM
designator D?  value LTC6268HS6#TRM
IC OPAMP 500MHZ SGL FET TSOT23-6; ValueManufacturer: Linear Technology/Analog Devices; ValueManufacturerPartNumber: LTC6268HS6#TRMPBF; ValueType: Operational Amplifier; Price: 8.41; ComponentLink1Description: Linear Technology Datasheet; ComponentLink1URL: http://cds.linear.com/docs/en/datasheet/62689f.pdf; Package: TSOT23-6; ValueDescription: =Value+' Операционный усилитель '+PowerVoltage+'  '+Package+'  '+TechSpec; Operating Temperature: -40°C ~ +125°C; CheckDate: SC *
footprint TSOT23-6-1.4X3-0.95 (SSOT, 6-Leads, Body 2,9x1,75mm, Pitch 0,95mm)
pins: 1 VOUT (out), 2 V- (power), 3 IN+ (in), 4 IN- (in), 5 ~{SHD}N, 6 V+ (power)

## LTC6268IS6-10#TRM
designator D?  value LTC6268IS6-10
IC OPAMP 4GHZ SGL FET 6SOT23; ValueManufacturer: Linear Technology/Analog Devices; ValueManufacturerPartNumber: LTC6268IS6-10#TRMPBF; ValueType: Operational Amplifier; Price: 8.55; ComponentLink1Description: Linear Technology/Analog  Devices Datasheet; ComponentLink1URL: http://cds.linear.com/docs/en/datasheet/626810f.pdf; Package: TSOT-23-6; ValueDescription: =Value+' Операционный усилитель '+PowerVoltage+'  '+Package+'  '+TechSpec; Operating Temperature: -40°C ~ +85°C; CheckDate: SC *
footprint TSOT23-6-1.4X3-0.95 (SSOT, 6-Leads, Body 2,9x1,75mm, Pitch 0,95mm)
pins: 1 VOUT (out), 2 V- (power), 3 IN+ (in), 4 IN- (in), 5 ~{SHD}N, 6 V+ (power)

## LTC6268IS8-10
designator D?  value LTC6268IS8-10
IC OPAMP 4GHZ SGL FET 8SOIC; ValueManufacturer: Linear Technology/Analog Devices; ValueManufacturerPartNumber: LTC6268IS8-10#PBF-ND; ValueType: Operational Amplifiers; Price: 7.41; ComponentLink1Description: Linear Technology/Analog  Devices Datasheet; ComponentLink1URL: http://cds.linear.com/docs/en/datasheet/626810f.pdf; Package: 8-SOIC; ValueDescription: =Value+' Операционный усилитель '+PowerVoltage+'  '+Package+'  '+TechSpec; Operating Temperature: -40°C ~ +85°C; CheckDate: SC *
footprint SOP-8-3.9X5-1.27 (SOIC, 8-Leads, Body 5x4mm, Pitch 1.27mm, IPC Medium Density)
pins: 2 IN- (in), 3 IN+ (in), 5 V- (power), 6 OUT (out), 7 V+ (power), 8 ~{SHDN}

## LTC6363HMS8#PBF
designator D?  value LTC6363HMS8#PBF
IC OPAMP DIFF RRO 8MSOP; ValueManufacturer: Linear Technology/Analog Devices; PowerVoltage: 2.8V~11 V; ValueDescription: LTC6363HMS8#PBF Дифференциальный усилитель 2.8V~11 V  MSOP-8; ValueType: Differential Amplifiers; Price: 6.23; ComponentLink1Description: Linear Technology/Analog Devices Datasheet; ComponentLink1URL: http://cds.linear.com/docs/en/datasheet/6363fb.pdf; Package: MSOP-8; ValueManufacturerPartNumber: LTC6363HMS8#PBF; Operating Temperature: -40°C~+85°C; CheckDate: *
footprint SSOP-8-3X3-0.65 (MSOP, 8-Leads, Body 3,00x3,00mm, Pitch 0,65mm, IPC Medium Density)
pins: 1 IN- (in), 2 VOCM (in), 3 V+ (power), 4 OUT+ (out), 5 OUT- (out), 6 V- (power), 7 ~{SHD}N (in), 8 IN+ (in)
text: Vocm; SHDN

## LTC6655CHMS8-5
designator D?  value LTC6655CHMS8-5
IC VREF SERIES 5V 8MSOP; ValueManufacturer: Linear Technology; ValueManufacturerPartNumber: LTC6655CHMS8-5#PBF; PowerVoltage: 5.5 V ~ 13.2 V; ValueType: Voltage Reference; ValueDescription: LTC6655CHMS8-5 Источник опорного напряжения 5.5 V ~ 13.2 V  8-TSSOP (3.00mm); Price: 7.84; Package: 8-TSSOP (3.00mm); Operating Temperature: -40°C ~ 125°C; CheckDate: SC *; ComponentLink2Description: Linear Techology Datasheet; ComponentLink2URL: http://cds.linear.com/docs/en/datasheet/6655ff.pdf
footprint SSOP-8-3X3-0.65 (MSOP, 8-Leads, Body 3,00x3,00mm, Pitch 0,65mm, IPC Medium Density)
pins: 1 ~{SHDN} (in) "Shutdown Input", 2 VIN (power) "Power Supply", 3 GND (power) "Internal Function. Ground these pins", 4 GND (power) "Device Ground", 5 GND (power) "Internal Function. Ground these pins", 6 VOUT_S "VOUT Sense Pin", 7 VOUT_F "VOUT Force Pin", 8 GND (power) "Internal Function. Ground these pins"

## LTC6752ISC6-4#TRM
designator D?, comment LTC6752ISC6-4
IC COMP R-R CMOS 280MHZ SC70-6; ValueManufacturer: Linear Technology/Analog Devices; ValueManufacturerPartNumber: LTC6752ISC6-4#TRMPBF; PowerVoltage: 2.45 V ~ 5.25 V; ValueDescription: LTC6752ISC6-4 Компаратор 2.45 V ~ 5.25 V  SC70-6; ValueType: Comparators; ComponentLink1Description: Linear Technology/Analog Devices  Datasheet; ComponentLink1URL: http://cds.linear.com/docs/en/datasheet/6752fc.pdf; CheckDate: SC *; Operating Temperature: -40°C ~ 85°C; Package: SC70-6; Price: 4.19; Value: LTC6752ISC6-4
footprint SOT363-6-1.25X2.1-0.65 (TSOP, 6-Leads, Body 2,00x1,25mm, Pitch 0,65mm, IPC Medium Density)
pins: 1 OUT (out), 2 VEE (power), 3 IN+ (in), 4 IN- (in), 5 VDD (power), 6 VCC (power)
text: CMP

## LTV-352T
designator U?  value LTV-352T
Optoisolator Darlington 300V. 150mA 4-SOP (2.54mm); ValueManufacturer: Lite-ON; PowerVoltage: 300V 150mA; ValueDescription: LTV-352T  Оптопара 300V 150mA  4-SOP (4.40mm); Price: 0.85; ComponentLink1Description: Lite-ON Datasheet; ComponentLink1URL: http://optoelectronics.liteon.com/upload/download/DS70-2001-002/S_110_LTV-352T%2020140520.pdf; Package: 4-SOP (4.40mm); ValueManufacturerPartNumber: LTV-352T; ValueType: Optoisolator; Operating Temperature: -55°C~110°C; CheckDate: SC 25.12.16
footprint SOP-4-3.8X4.4-2.54 (SOP, 4-Leads, Body 3,80x4,40mm, Pitch 2,54mm, IPC Medium Density)
pins: 1 An "Current input", 2 Ct "Current output", 3 Em (oe) "Current output", 4 Cl (oc) "Current input"

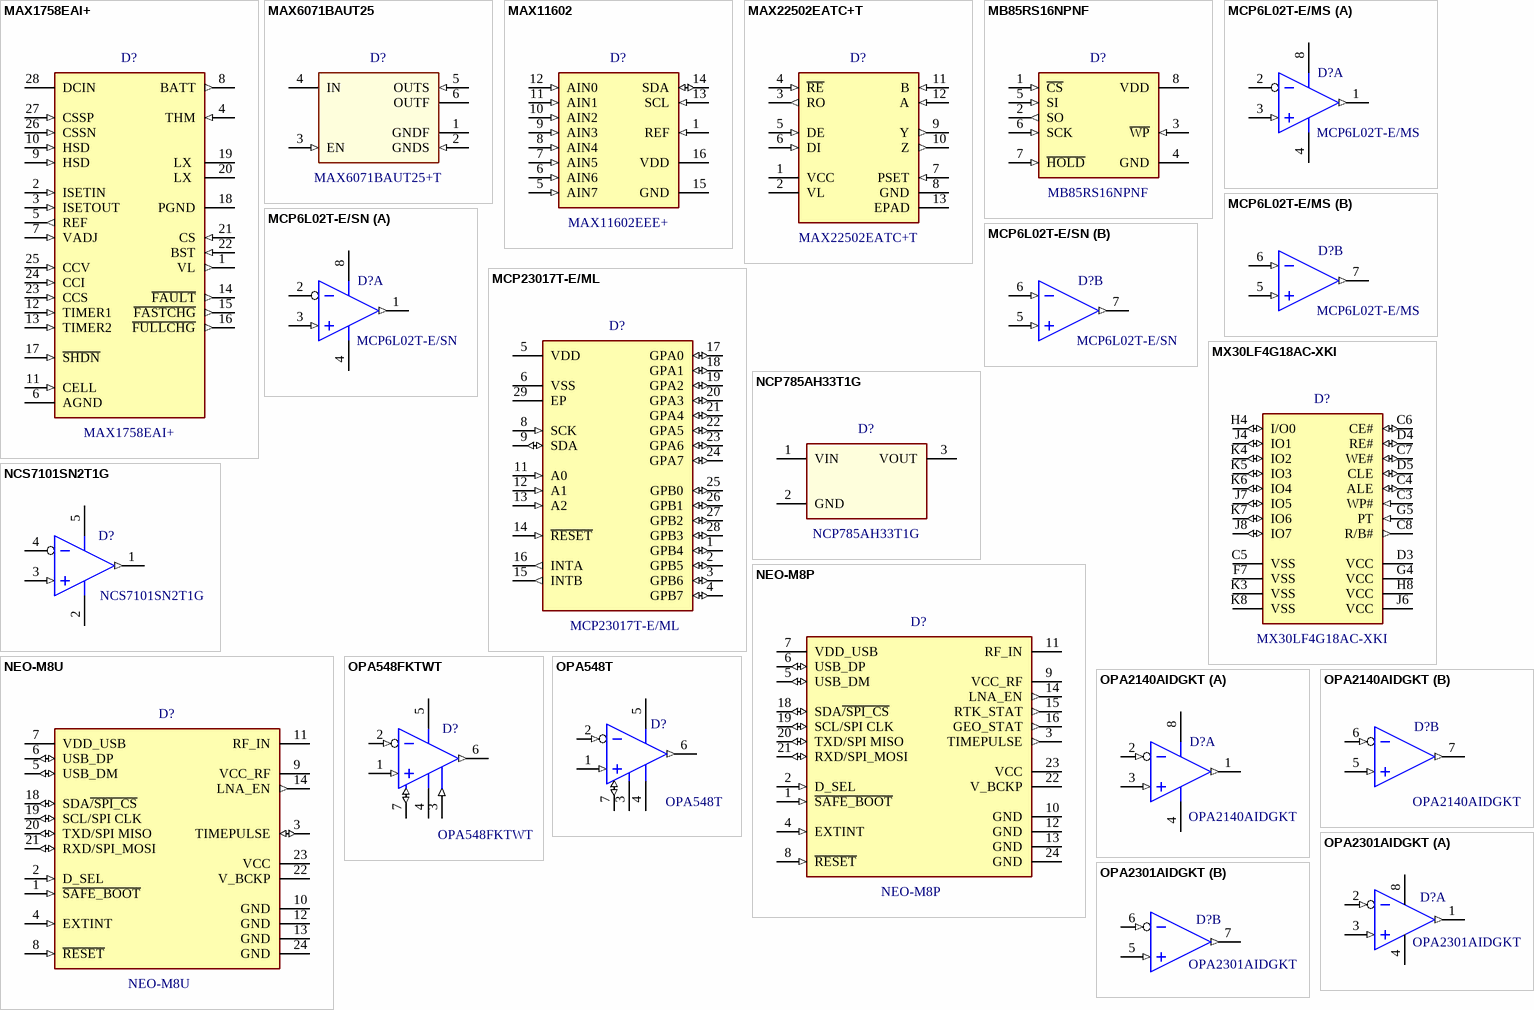
[diagram p4: symbols MAX1758EAI+ to OPA2301AIDGKT]

## MAX1758EAI+
designator D?  value MAX1758EAI+
BATT CHRG 4-LI+ 28V SW 28SSOP; ValueManufacturer: Maxim Integrated; Tolerance: 1.5A; ValueDescription: MAX1758EAI+ Контроллер зарядки Li-ion АКБ 28V  28-SSOP (5.30mm); ValueType: Li+ Battery Charger; Price: 9.3; ComponentLink1Description: Maxim Datasheet; ComponentLink1URL: http://datasheets.maximintegrated.com/en/ds/MAX1758.pdf; Package: 28-SSOP (5.30mm); PowerVoltage: 28V; ValueManufacturerPartNumber: MAX1758EAI+; Operating Temperature: -40°C~85°C; CheckDate: SC 21.10.17
footprint SSOP-28-5.3X10.2-0.65 (28-SSOP (0.209", 5.30mm Width))
pins: 1 VL (out) "Chip Power Supply. Output of the 5.4V", 2 ISETIN (in) "Input Current Limit Adjust.", 3 ISETOUT (in) "Battery Charging Current Adjust.", 4 THM (in) "Thermistor Input.", 5 REF (out) "4.2V Reference Voltage Output.", 6 AGND "Analog ground", 7 VADJ (in) "Voltage Adjustment.", 8 BATT (out) "Battery Voltage-Sense Input and Current-Sense Negative Input", 9 HSD  (in) "High-Side Drain. This is the drain of the internal high-side FET.", 10 HSD  (in) "High-Side Drain. This is the drain of the internal high-side FET.", 11 CELL (in) "Cell-Count Programming Input.", 12 TIMER1 (in) "Timer1 Adjustment.", 13 TIMER2 (in) "Timer2 Adjustment.", 14 ~{FAULT} (out) "Charge Fault Indicator.", 15 ~{FASTCHG} (out) "Fast-Charge Indicator.", 16 ~{FULLCHG} (out) "Full-Charge Indicator.", 17 ~{SHDN} (in) "Drive SHDN low to disable charging.", 18 PGND "Power ground", 19 LX  "Power Inductor Switching Node and High-Side Power MOSFET Source", 20 LX  "Power Inductor Switching Node and High-Side Power MOSFET Source", 21 CS (in) "Battery Current-Sense Positive Input.", 22 BST (in) "High-Side MOSFET Gate Drive Bias.", 23 CCS (in) "Charger Source Current Regulation Loop Compensation Point.", 24 CCI (in) "Battery Charge Current Regulation Loop Compensation Point.", 25 CCV (in) "Voltage Regulation Loop Compensation Point.", 26 CSSN (in) "Source Current-Sense Negative Input.", 27 CSSP (in) "Source Current-Sense Positive Input.", 28 DCIN (power) "Power-Supply Input 28V max"

## MAX6071BAUT25
designator D?  value MAX6071BAUT25+T
VREF SERIES 2.5V SOT23; ValueManufacturer: Maxim integrated; PowerVoltage: 2.5B; ValueDescription: MAX6071BAUT25+T Источник опорного напряжения 2.5B  SOT-23-6; ValueType: Voltage reference; Price: 2.16; Package: SOT-23-6; ValueManufacturerPartNumber: MAX6071BAUT25+T; Operating Temperature: -40°C ~ 125°C (TJ); CheckDate: SC *; ComponentLink1Description: MAX integrated; ComponentLink1URL: https://datasheets.maximintegrated.com/en/ds/MAX6070-MAX6071.pdf
footprint SOT23-6-1.6X2.9-0.95 (SOT, 6-Leads, Body 2,9x1,6mm, Pitch 0,95mm)
pins: 1 GNDF, 2 GNDS (in), 3 EN (in), 4 IN, 5 OUTS (in), 6 OUTF

## MAX11602
designator D?  value MAX11602EEE+
8BIT 8CH I2C ADC 16-QSOP; ValueManufacturer: Maxim; PowerVoltage: 5В; ValueDescription: MAX11602EEE+ АЦП 8вх. 8разр. 5В  16-QSOP (3.90mm); Price: 1.82; ComponentLink1Description: Maxim Datasheet; ComponentLink1URL: https://datasheets.maximintegrated.com/en/ds/MAX11600-MAX11605.pdf; Package: 16-QSOP (3.90mm); ValueManufacturerPartNumber: MAX11602EEE+; ValueType: ADC; Operating Temperature: -40°C~85°C; CheckDate: SC 05.01.17
footprint SOP-16-3.9X4,9-0.635 (QSOP, 16 Leads, Body 5x4mm (max), Pitch 0.635mm)
pins: 1 REF (in) "Reference Input/Output", 5 AIN7 (in) "ADC", 6 AIN6 (in) "ADC", 7 AIN5 (in) "ADC", 8 AIN4 (in) "ADC", 9 AIN3 (in) "ADC", 10 AIN2 (in) "ADC", 11 AIN1 (in) "ADC", 12 AIN0 (in) "ADC", 13 SCL (in) "SCL in", 14 SDA (io), 15 GND "Ground", 16 VDD "Power"

## MAX22502EATC+T
designator D?  value MAX22502EATC+T
IC TXRX RS485/422 ESD 12TDFN; ValueManufacturer: Maxim Integrated; PowerVoltage: 3 V ~ 5.5 V; ValueDescription: MAX22502EATC+T Приемопередатчик 3 V ~ 5.5 V  12-TDFN-EP (3x3); ValueType: Transceiver; Price: 9.38; ComponentLink1Description: Maxim Integrated Datasheet; ComponentLink1URL: https://datasheets.maximintegrated.com/en/ds/MAX22502E.pdf; Package: 12-TDFN-EP (3x3); ValueManufacturerPartNumber: MAX22502EATC+T; Operating Temperature: -40°C ~ 125°C; CheckDate: SC *
footprint DFN-12-3X3-0.5-T (12-TDFN Exposed Pad(3х3))
pins: 1 VCC, 2 VL, 3 RO (out), 4 ~{RE} (in), 5 DE (in), 6 DI (in), 7 PSET (in), 8 GND, 9 Y (out), 10 Z (out), 11 B (in), 12 A (in), 13 EPAD

## MB85RS16NPNF
designator D?  value MB85RS16NPNF
SPI FRAM 16KBIT 20MHZ 3.3V 8-SOIC (3.90mm); ValueManufacturer: FUJITSU SEMICONDUCTOR; PowerVoltage: 2.7V~3.6V; ValueDescription: MB85RS16NPNF  FRAM ПЗУ 2.7V~3.6V  8-SOIC (3.90mm); Price: 1.13; ComponentLink1Description: FUJITSU SEMICONDUCTOR; ComponentLink1URL: http://www.fujitsu.com/uk/Images/MB85RS16N.pdf; Package: 8-SOIC (3.90mm); ValueManufacturerPartNumber: MB85RS16NPNF; ValueType: FRAM; Operating Temperature: -40°C~85°C; CheckDate: SC 25.12.16
footprint SOP-8-3.9X5-1.27 (SOIC, 8-Leads, Body 5x4mm, Pitch 1.27mm, IPC Medium Density)
pins: 1 ~{CS} (in) "Chip Select", 2 SO (out) "Slave out", 3 ~{WP} (in) "Write Protect", 4 GND "Ground", 5 SI (in) "Slave in", 6 SCK (in) "Serial clock", 7 ~{HOLD} (in) "Interrupt serial I/O", 8 VDD "Power"

## MCP6L02T-E/MS
designator D?  value MCP6L02T-E/MS
OP Amplifier GP Rail-to-Rail 1MHZ RRO 8-MSOP 1.8V~6V; ValueManufacturer: Microchip; ValueDescription: MCP6L02T-E/MS Операционный усилитель 1.8V~6V  8-MSOP  (3.00mm); ValueType: Operational amplifiers; Price: 0.32; ComponentLink1Description: Microchip  Datasheet; ComponentLink1URL: http://ww1.microchip.com/downloads/en/DeviceDoc/22140b.pdf; Package: 8-MSOP  (3.00mm); PowerVoltage: 1.8V~6V; ValueManufacturerPartNumber: MCP6L02T-E/MS; Operating Temperature: -40°C~125°C; CheckDate: SC 12.03.17
footprint SSOP-8-3X3-0.65 (MSOP, 8-Leads, Body 3,00x3,00mm, Pitch 0,65mm, IPC Medium Density)
part A pins: 1 VOUTA (out), 2 VINA-, 3 VINA+ (in), 4 VSS, 8 VDD
part B pins: 5 VINB+ (in), 6 VINB- (in), 7 VOUTB (out)

## MCP6L02T-E/SN
designator D?  value MCP6L02T-E/SN
OP Amplifier GP Rail-to-Rail 1MHZ RRO 8SOIC 1.8V~6V; ValueManufacturer: Microchip; ValueDescription: MCP6L02T-E/SN Операционный усилитель 1.8V~6V  8-SOIC (3.90mm); ValueType: Operational amplifiers; Price: 0.32; ComponentLink1Description: Microchip  Datasheet; ComponentLink1URL: http://ww1.microchip.com/downloads/en/DeviceDoc/22140b.pdf; Package: 8-SOIC (3.90mm); PowerVoltage: 1.8V~6V; ValueManufacturerPartNumber: MCP6L02T-E/SN; Operating Temperature: -40°C~125°C; CheckDate: SC 23.12.16
footprint SOP-8-3.9X5-1.27 (SOIC, 8-Leads, Body 5x4mm, Pitch 1.27mm, IPC Medium Density)
part A pins: 1 VOUTA (out), 2 VINA-, 3 VINA+ (in), 4 VSS, 8 VDD
part B pins: 5 VINB+ (in), 6 VINB- (in), 7 VOUTB (out)

## MCP23017T-E/ML
designator D?  value MCP23017T-E/ML
IC I/O EXPANDER I2C 16B 28QFN; ValueManufacturer: Microchip Technology; PowerVoltage: 1.8 V ~ 5.5 V; ValueDescription: MCP23017T-E/ML Расширитель портов 1.8 V ~ 5.5 V  28-QFN; ValueType: IO Expander; Price: 1.45; ComponentLink1Description: Microchip Technology Datasheet; ComponentLink1URL: http://ww1.microchip.com/downloads/en/DeviceDoc/20001952C.pdf; Package: 28-QFN; ValueManufacturerPartNumber: MCP23017T-E/ML; Operating Temperature: -40°C~125°C; CheckDate: SC *
footprint VQFN-28-6X6-0.65 (Body 6x6x1mm, pitch 0.65mm)
pins: 1 GPB4 (io), 2 GPB5 (io), 3 GPB6 (io), 4 GPB7 (io), 5 VDD, 6 VSS, 8 SCK (in), 9 SDA (io), 11 A0 (in), 12 A1 (in), 13 A2 (in), 14 ~{RESET} (in), 15 INTB (out), 16 INTA (out), 17 GPA0 (io), 18 GPA1 (io), 19 GPA2 (io), 20 GPA3 (io), 21 GPA4 (io), 22 GPA5 (io), 23 GPA6 (io), 24 GPA7 (io), 25 GPB0 (io), 26 GPB1 (io), 27 GPB2 (io), 28 GPB3 (io), 29 EP

## MX30LF4G18AC-XKI
designator D?  value MX30LF4G18AC-XKI
FLASH 4G PARALLEL 63VFBGA; ValueManufacturer: Macronix; PowerVoltage: 2.7V~3.6V; ValueDescription: MX30LF4G18AC-XKI Память Flash NAND 2.7V~3.6V  63-VFBGA (9x11); ValueType: Flash NAND; Price: 11.32; Package: 63-VFBGA (9x11); ValueManufacturerPartNumber: MX30LF4G18AC-XKI; Operating Temperature: -40°C~85°C; CheckDate: SC *; ComponentLink1Description: MX30LF4G18AC-XKI; ComponentLink1URL: http://www.macronix.com/Lists/Datasheet/Attachments/6517/MX30LF2G18AC,%203V,%202Gb,%20v1.4.pdf
footprint BGA63_10X12 (BGA, 63-Leads, Body 9,00x11,00mmx1,00mm, Pitch 0,80mm)
pins: C3 WP# (in), C4 ALE (io), C5 VSS, C6 CE# (io), C7 WE# (io), C8 R/B# (out), D3 VCC, D4 RE# (io), D5 CLE (io), F7 VSS, G4 VCC, G5 PT (in), H4 I/O0 (io), H8 VCC, J4 IO1 (io), J6 VCC, J7 IO5 (io), J8 IO7 (io), K3 VSS, K4 IO2 (io), K5 IO3 (io), K6 IO4 (io), K7 IO6 (io), K8 VSS

## NCP785AH33T1G
designator D?  value NCP785AH33T1G
LDO 3.3V 10MA VINmax=450V SOT89-3; ValueManufacturer: ON Semiconductor; ValueDescription: NCP785AH33T1G Линейный преобразователь 3.3V 10mA  SOT-89-3 (TO-243AA)  VINmax=450V; ValueType: Power Management; Price: 0.85; ComponentLink1Description: ON Semiconductor Datasheet; ComponentLink1URL: http://www.onsemi.com/pub/Collateral/NCP785A-D.PDF; Package: SOT-89-3 (TO-243AA); PowerVoltage: 3.3V 10mA; TechSpec: VINmax=450V; ValueManufacturerPartNumber: NCP785AH33T1G; Operating Temperature: -40°C~85°C; CheckDate: SC 29.10.17
footprint SOT89-3-4.5X2.5-1.5 (SOT89, Body 4.5x2.5mm, Pitch 1.5mm)
pins: 1 VIN, 2 GND, 3 VOUT

## NCS7101SN2T1G
designator D?  value NCS7101SN2T1G
OPAMP GP 1MHZ RRO 5TSOP; ValueManufacturer: ON Semiconductor; PowerVoltage: 1.8 V ~ 10 V; ValueDescription: NCS7101SN2T1G Операционный усилитель 1.8 V ~ 10 V  SOT-23-5 Thin, TSOT-23-5; ValueType: Operational Amplifier; Price: 0.67; ComponentLink1Description: ON Semiconductor  Datasheet; ComponentLink1URL: http://www.onsemi.com/pub/Collateral/NCS7101-D.PDF; Package: SOT-23-5 Thin, TSOT-23-5; ValueManufacturerPartNumber: NCS7101SN2T1G; Operating Temperature: -40°C~85°C; CheckDate: SC 21.10.17
footprint TSOT23-5-1.4X3-0.95 (SOT-23/SC-74A; 5 Leads; Body 3.1 x 3 mm, inc. leads (LxW max))
pins: 1 VOUT (out), 2 VЕЕ (power), 3 VIN+ (in), 4 VIN-, 5 VCC (power)

## NEO-M8P
designator D?  value NEO-M8P
RF Receiver BeiDou, Galileo, GLONASS, GNSS, GPS 1.575GHz -160dBm; ValueManufacturer: U-Blox America Inc.; PowerVoltage: 2.7V~3.6V; ValueDescription: NEO-M8P Приемник BeiDou, Galileo, GLONASS, GPS 2.7V~3.6V  24-SMD Module; Price: 158.0; ComponentLink1Description: U-Blox America Datasheet; ComponentLink1URL: https://www.u-blox.com/sites/default/files/NEO-M8P_DataSheet_%28UBX-15016656%29.pdf; Package: 24-SMD Module; ValueManufacturerPartNumber: NEO-M8P; ValueType: RF Receiver; Operating Temperature: -40°C~85°C; CheckDate: SC 29.10.17
footprint U-BLOX_NEO
pins: 1 ~{SAFE_BOOT} (in), 2 D_SEL (in), 3 TIMEPULSE (out), 4 EXTINT (in), 5 USB_DM (io), 6 USB_DP (io), 7 VDD_USB, 8 ~{RESET} (in), 9 VCC_RF, 10 GND, 11 RF_IN, 12 GND, 13 GND, 14 LNA_EN (out), 15 RTK_STAT (out), 16 GEO_STAT (out), 18 SDA~{/SPI_CS} (io), 19 SCL/SPI CLK (io), 20 TXD/SPI MISO (io), 21 RXD/SPI_MOSI (io), 22 V_BCKP, 23 VCC, 24 GND